# Altium footprint library PcbLib1.PcbLib: 1 footprints
Each footprint in its own frame and in the unit in brackets; x right, y up, seen from the top. Pads: shape width x height; smd on the part's side, far side on the other; paste and mask are expansions set on the pad; w line width, h text height; cw(c..) or ccw(c..) is an arc to the next point about the centre after c.
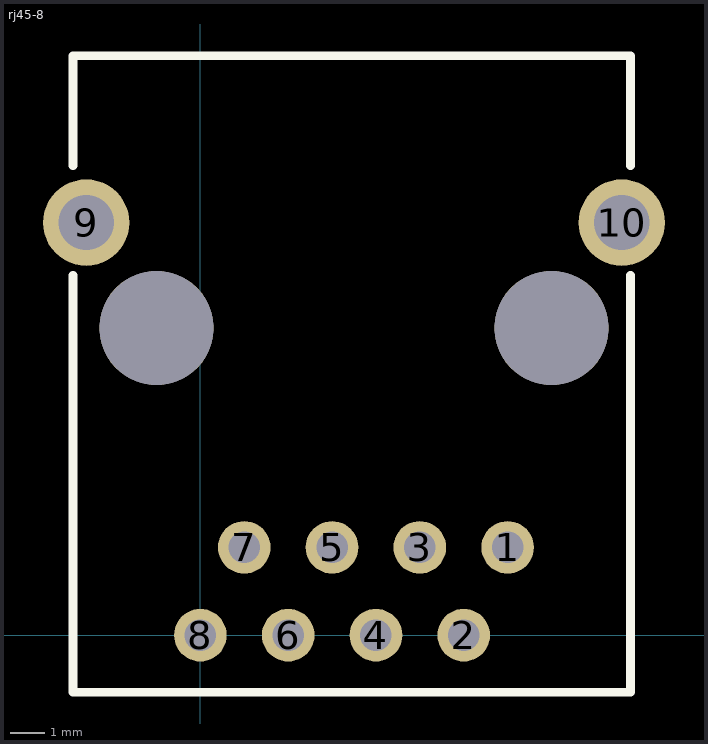
[diagram p0: the footprint, top view; thin cyan lines are the x and y axes]

## rj45-8 [mil]
pads (12):
  round 60 hole 36: 1(350,100) 2(300,0) 3(250,100) 4(200,0) 5(150,100) 6(100,0) 7(50,100) 8(0,0)
  round 98.42 hole 62.99: 9(-130.12,470.08) 10(480.12,470.08)
  round 129.92 hole 129.92 unplated: ""(-50,350) ""(400,350)
Top Overlay:
  lines w10: -145,410.04 -145,-64.96 -136.02,-64.96 486.02,-64.96 490,-64.96 490,410.04 ; -145,535.04 -145,660.04 490,660.04 490,535.04